# Altium integrated library TerminalBlocksRisingCage_10.16mm.IntLib: 14 symbols
Pins are listed as number, name and electrical type; pins without a type are passive.

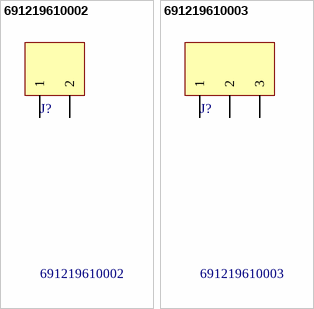
[diagram p0: symbols 691219610002 to 691219610003]

## 691219610002
designator J?
WR-TBL Horizontal Entry Modular with Rising Cage Clamp,Serie 2196 - 10.16 mm; Manufacturer: Würth Elektronik eiSos GmbH; ComponentLink1 Description: Manufacturer; ComponentLink2 Description: Datasheet; NoPins: 2; Created Date: 2 December 2013; partNo: 691219610002; ComponentLink1URL: http://www.we-online.com; ComponentLink2URL: http://katalog.we-online.de/em/datasheet/6912196100xx.pdf; Created by: Karrer Zheng
footprint 691219610002
pins: 1, 2

## 691219610003
designator J?
WR-TBL Horizontal Entry Modular with Rising Cage Clamp,Serie 2196 - 10.16 mm; Manufacturer: Würth Elektronik eiSos GmbH; ComponentLink1 Description: Manufacturer; ComponentLink2 Description: Datasheet; NoPins: 3; Created Date: 2 December 2013; partNo: 691219610003; ComponentLink1URL: http://www.we-online.com; ComponentLink2URL: http://katalog.we-online.de/em/datasheet/6912196100xx.pdf; Created by: Karrer Zheng
footprint 691219610003
pins: 1, 2, 3


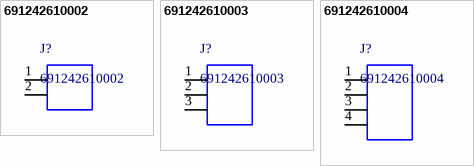
[diagram p1: symbols 691242610002 to 691242610004]

## 691242610002
designator J?
WR-TBL Horizontal Cable Entry With Rising Cage Clamp,Serie 2426 - 10.16 mm; Manufacturer: Wurth Elektronik; ComponentLink1 Description: Manufacturer; ComponentLink2 Description: Datasheet; ComponentLink1URL: http://www.we-online.de; ComponentLink2URL: http://katalog.we-online.de/em/datasheet/6912426100xx.pdf; Created by: Baojun Chen; Created Date: 8.Sep.2015; partNo: 691242610002
footprint 691242610002 (Serie 2426 - 10.16 mm _ 2 pins)
pins: 1, 2

## 691242610003
designator J?
WR-TBL Horizontal Cable Entry With Rising Cage Clamp,Serie 2426 - 10.16 mm; Manufacturer: Wurth Elektronik; ComponentLink1 Description: Manufacturer; ComponentLink2 Description: Datasheet; ComponentLink1URL: http://www.we-online.de; ComponentLink2URL: http://katalog.we-online.de/em/datasheet/6912426100xx.pdf; Created by: Baojun Chen; Created Date: 8.Sep.2015; partNo: 691242610003
footprint 691242610003 (Serie 2426 - 10.16 mm _ 3 pins)
pins: 1, 2, 3

## 691242610004
designator J?
WR-TBL Horizontal Cable Entry With Rising Cage Clamp,Serie 2426 - 10.16 mm; Manufacturer: Wurth Elektronik; ComponentLink1 Description: Manufacturer; ComponentLink2 Description: Datasheet; ComponentLink1URL: http://www.we-online.de; ComponentLink2URL: http://katalog.we-online.de/em/datasheet/6912426100xx.pdf; Created by: Baojun Chen; Created Date: 8.Sep.2015; partNo: 691242610004
footprint 691242610004 (Serie 2426 - 10.16 mm _ 4 pins)
pins: 1, 2, 3, 4


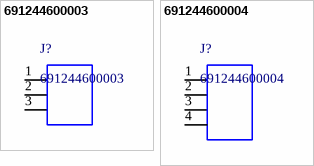
[diagram p2: symbols 691244600003 to 691244600004]

## 691244600003
designator J?
WR-TBL Vertical Cable Entry With Rising Cage Clamp,Serie 2446 - 10.16 mm; Manufacturer: Wurth Elektronik; ComponentLink1 Description: Manufacturer; ComponentLink2 Description: Datasheet; ComponentLink1URL: http://www.we-online.de; ComponentLink2URL: http://katalog.we-online.de/em/datasheet/6912446000xx.pdf; Created by: Baojun Chen; Created Date: 15.Sep.2015; partNo: 691244600003
footprint 691244600003 (Serie 2446 - 10.16 mm _ 3 pins)
pins: 1, 2, 3

## 691244600004
designator J?
WR-TBL Vertical Cable Entry With Rising Cage Clamp,Serie 2446 - 10.16 mm; Manufacturer: Wurth Elektronik; ComponentLink1 Description: Manufacturer; ComponentLink2 Description: Datasheet; ComponentLink1URL: http://www.we-online.de; ComponentLink2URL: http://katalog.we-online.de/em/datasheet/6912446000xx.pdf; Created by: Baojun Chen; Created Date: 15.Sep.2015; partNo: 691244600004
footprint 691244600004 (Serie 2446 - 10.16 mm _ 4 pins)
pins: 1, 2, 3, 4


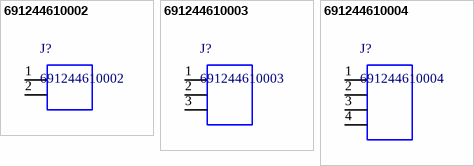
[diagram p3: symbols 691244610002 to 691244610004]

## 691244610002
designator J?
WR-TBL Horizontal Cable Entry With Rising Cage Clamp,Serie 2446 - 10.16 mm; Manufacturer: Wurth Elektronik; ComponentLink1 Description: Manufacturer; ComponentLink2 Description: Datasheet; ComponentLink1URL: http://www.we-online.de; ComponentLink2URL: http://katalog.we-online.de/em/datasheet/6912446100XX.pdf; Created by: Baojun Chen; Created Date: 15.Sep.2015; partNo: 691244610002
footprint 691244610002 (Serie 2446 - 10.16 mm _ 2 pins)
pins: 1, 2

## 691244610003
designator J?
WR-TBL Horizontal Cable Entry With Rising Cage Clamp,Serie 2446 - 10.16 mm; Manufacturer: Wurth Elektronik; ComponentLink1 Description: Manufacturer; ComponentLink2 Description: Datasheet; ComponentLink1URL: http://www.we-online.de; ComponentLink2URL: http://katalog.we-online.de/em/datasheet/6912446100XX.pdf; Created by: Baojun Chen; Created Date: 15.Sep.2015; partNo: 691244610003
footprint 691244610003 (Serie 2446 - 10.16 mm _ 3 pins)
pins: 1, 2, 3

## 691244610004
designator J?
WR-TBL Horizontal Cable Entry With Rising Cage Clamp,Serie 2446 - 10.16 mm; Manufacturer: Wurth Elektronik; ComponentLink1 Description: Manufacturer; ComponentLink2 Description: Datasheet; ComponentLink1URL: http://www.we-online.de; ComponentLink2URL: http://katalog.we-online.de/em/datasheet/6912446100XX.pdf; Created by: Baojun Chen; Created Date: 15.Sep.2015; partNo: 691244610004
footprint 691244610004 (Serie 2446 - 10.16 mm _ 4 pins)
pins: 1, 2, 3, 4


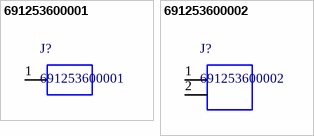
[diagram p4: symbols 691253600001 to 691253600002]

## 691253600001
designator J?
WR-TBL Vertical Cable Entry With Rising Cage Clamp,Serie 2536 - 10.16 mm; Manufacturer: Wurth Elektronik; ComponentLink1 Description: Manufacturer; ComponentLink2 Description: Datasheet; ComponentLink1URL: http://www.we-online.de; ComponentLink2URL: http://katalog.we-online.de/em/datasheet/6912536000xx.pdf; Created by: Baojun Chen; Created Date: 15.Sep.2015; partNo: 691253600001
footprint 691253600001 (Serie 2536 - 10.16 mm _ 1 pin)
pins: 1

## 691253600002
designator J?
WR-TBL Vertical Cable Entry With Rising Cage Clamp,Serie 2536 - 10.16 mm; Manufacturer: Wurth Elektronik; ComponentLink1 Description: Manufacturer; ComponentLink2 Description: Datasheet; ComponentLink1URL: http://www.we-online.de; ComponentLink2URL: http://katalog.we-online.de/em/datasheet/6912536000xx.pdf; Created by: Baojun Chen; Created Date: 15.Sep.2015; partNo: 691253600002
footprint 691253600002 (Serie 2536 - 10.16 mm _ 2 pins)
pins: 1, 2


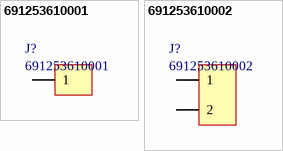
[diagram p5: symbols 691253610001 to 691253610002]

## 691253610001
designator J?
Horizontal Cable Entry with Rising Cage Clamp, Serie 2536 - 10.16mm; Manufacturer: Wurth Elektronik; ComponentLink1 Description: Manufacturer; ComponentLink2 Description: Datasheet; NoPins: 1; ComponentLink1 URL: http://www.we-online.com; ComponentLink2 URL: http://katalog.we-online.de/em/datasheet/6912536100xx.pdf; Created By: Baojun Chen; Created Date: Dec.2015; PartNo: 691253610001
footprint 691253610001 (Serie 2536 - 10.16 mm _ 1 pins)
pins: 1

## 691253610002
designator J?
Horizontal Cable Entry with Rising Cage Clamp, Serie 2536 - 10.16mm; Manufacturer: Wurth Elektronik; ComponentLink1 Description: Manufacturer; ComponentLink2 Description: Datasheet; NoPins: 2; ComponentLink1 URL: http://www.we-online.com; ComponentLink2 URL: http://katalog.we-online.de/em/datasheet/6912536100xx.pdf; Created By: Baojun Chen; Created Date: 28.Aug.2015; PartNo: 691253610002
footprint 691253610002 (Serie 2536 - 10.16 mm _ 2 pins)
pins: 1, 2